# Altium schematic symbol library MoBo_SchLib.SchLib: 26 symbols
Pins are listed as number, name and electrical type; pins without a type are passive.

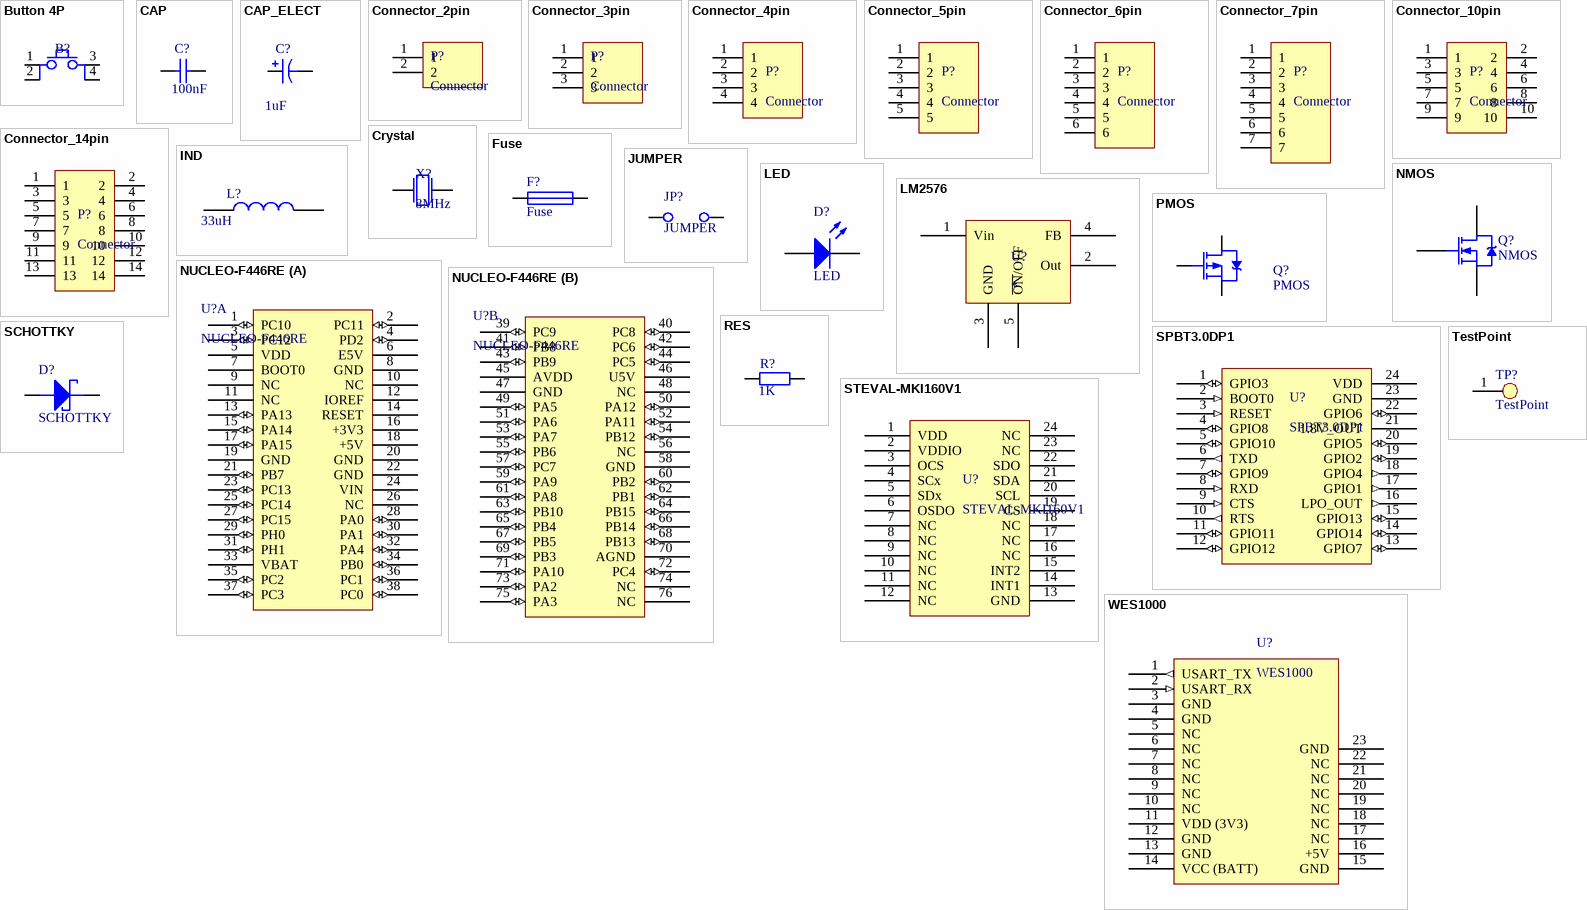
[diagram p0: symbols Button 4P to WES1000]

## Button 4P
designator B?, comment Button  (value not drawn)
Push button
footprint FP_BTN_SMD (SMD Push Button 6x6mm)
pins: 1, 2, 3, 4

## CAP
designator C?, comment 100nF
Capacitor; Value: 100nF
footprint FP_0402_CAP_050 (0.5mm magas 0402 kapacitás)
footprint FP_0603_CAP_080 (0.8mm magas 0603 kapacitás)
footprint FP_0805_CAP_085 (0805 kapacitás YAGEO 0.85mm magas)
footprint FP_1206_CAP_125 (1206 kapacitás 1.25 mm)
pins: 1, 2

## CAP_ELECT
designator C?, comment 1uF
Polarized Capacitor; Value: 1uF
footprint FP_3528 (3528 TANTÁL SMD "B"-TOK)
footprint FP_6032
footprint FP_7343
pins: N, P
1 alternate drawing of the same symbol

## Connector_2pin
designator P?, comment Connector
2pin connector
footprint FP_CONN2_TAP_254MM (álló két pólusú tápcsatlakozó 2.54mm)
footprint FP_CONN2_TAP_254MM_90 (fekvő két pólusú tápcsatlakozó 2.54mm)
footprint FP_CONN2_SORK_3.81MM (SORKAPOCS 2 P RM3.81)
footprint FP_CONN2_2MM_90 (fekvő 2 pólusú csatlakozó 2mm)
footprint FP_CONN2_2MM_180 (álló 2 pólusú csatlakozó 2mm)
footprint FP_CONN2_TUSKE_254MM (2×1 tüskesor)
pins: 1, 2

## Connector_3pin
designator P?, comment Connector
3pin connector
footprint FP_CONN3_TAP_254MM_90 (fekvő három pólusú tápcsatlakozó 2.54mm)
footprint FP_CONN3_TAP_254MM (álló három pólusú tápcsatlakozó 2.54mm)
footprint FP_CONN3_2MM_90 (fekvő 3 pólusú csatlakozó 2mm)
footprint FP_CONN3_TUSKE_254MM (3×1 tüskesor)
pins: 1, 2, 3

## Connector_4pin
designator P?, comment Connector
4pin Connector
footprint FP_CONN4_TAP_254MM_90 (fekvő két pólusú tápcsatlakozó 2.54mm)
footprint FP_CONN4_TAP_254MM (álló két pólusú tápcsatlakozó 2.54mm)
footprint FP_CONN4_2MM_90 (fekvő 6 pólusú csatlakozó 2mm)
footprint FP_CONN4_2MM_180 (álló 4 pólusú csatlakozó 2mm)
pins: 1, 2, 3, 4

## Connector_5pin
designator P?, comment Connector
5pin Connector
footprint FP_CONN5_TAP_254MM_90 (fekvő öt pólusú tápcsatlakozó 2.54mm)
footprint FP_CONN5_TAP_254MM (álló öt pólusú tápcsatlakozó 2.54mm)
footprint FP_CONN5_2MM_90 (fekvő 5 pólusú csatlakozó 2mm)
pins: 1, 2, 3, 4, 5

## Connector_6pin
designator P?, comment Connector
6pin connector
footprint FP_CONN6_TAP_254MM_90 (fekvő hat pólusú tápcsatlakozó 2.54mm)
footprint FP_CONN6_TAP_254MM (álló hat pólusú tápcsatlakozó 2.54mm)
footprint FP_CONN6_2MM_90 (fekvő 6 pólusú csatlakozó 2mm)
footprint FP_CONN6_2MM_180 (álló 6 pólusú csatlakozó 2mm)
pins: 1, 2, 3, 4, 5, 6

## Connector_7pin
designator P?, comment Connector
7pin Connector
footprint FP_CONN5_TAP_254MM_90 (fekvő öt pólusú tápcsatlakozó 2.54mm)
footprint FP_CONN5_TAP_254MM (álló öt pólusú tápcsatlakozó 2.54mm)
footprint FP_CONN5_2MM_90 (fekvő 5 pólusú csatlakozó 2mm)
pins: 1, 2, 3, 4, 5, 6, 7

## Connector_10pin
designator P?, comment Connector
10pin Connector
footprint FP_CONN10
pins: 1, 2, 3, 4, 5, 6, 7, 8, 9, 10

## Connector_14pin
designator P?, comment Connector
14pin Connector
footprint FP_CONN14
pins: 1, 2, 3, 4, 5, 6, 7, 8, 9, 10, 11, 12, 13, 14

## Crystal
designator X?, comment 8MHz
Quarz Crystal; Value: 8MHz
footprint FP_CRYSTAL_HC49_SMD (HC49/SMD)
footprint FP_CRYSTAL_HC49 (HC49)
pins: 1, 2

## Fuse
designator F?
footprint FP_MULTIFUSE (POLYFUSE SMD 1812)
pins: 1, 2

## IND
designator L?, comment 33uH
Inductor; Value: 33uH
footprint FP_IND_MURATA3131 (Murata Chip Inductor LQH88P Series (3131 Size))
pins: 1, 2

## JUMPER
designator JP?
Jumper Wire
footprint FP_CONN2_TUSKE_2MM_1.5+3.2 (2×1-es tüskesor, 2mm-es raszter, 1.5mm műanyag + 3.2mm tüske SAMTEC-TMM-1XX-01-...)
pins: 1 C1, 2 C2

## LED
designator D?
Typical RED GaAs LED
footprint FP_LED_TH_GREEN (5mm átmérőjű furatszerelt zöld LED); pin to pad 1>A 2>K
footprint FP_LED_TH_RED (5mm átmérőjű furatszerelt piros LED); pin to pad 1>A 2>K
footprint FP_0805_LED_RED (0805 méretű piros LED); pin to pad 1>A 2>K
footprint FP_0805_LED_GREEN (0805 méretű zöld LED); pin to pad 1>A 2>K
pins: 1 A, 2 K

## LM2576
designator U?
3-A Step-Down Voltage Regulator
pins: 1 Vin, 2 Out, 3 GND, 4 FB, 5 ~{ON}/OFF

## NMOS
designator Q?
NXP - BSP030,115 - MOSFET, N CH, 30V, 10A, SOT223
footprint FP_SOT223 (SOT223 package, 3 leads)
footprint FP_SOT23-3 (SOT23-3 tok); pin to pad 2>3 3>2
pins: 1 G, 2 D, 3 S

## NUCLEO-F446RE
designator U?
Reference: NUCLEO; Name: Nucleo F446RE; Supplier: Tanszék
footprint FP_NUCLEO-64
part A pins: 1 PC10 (io), 2 PC11 (io), 3 PC12 (io), 4 PD2 (io), 5 VDD (power), 6 E5V (power), 7 BOOT0, 8 GND, 9 NC, 10 NC, 11 NC, 12 IOREF, 13 PA13 (io), 14 RESET, 15 PA14 (io), 16 +3V3 (power), 17 PA15 (io), 18 +5V (power), 19 GND, 20 GND, 21 PB7 (io), 22 GND, 23 PC13 (io), 24 VIN (power), 25 PC14 (io), 26 NC, 27 PC15 (io), 28 PA0 (io), 29 PH0 (io), 30 PA1 (io), 31 PH1 (io), 32 PA4 (io), 33 VBAT (power), 34 PB0 (io), 35 PC2 (io), 36 PC1 (io), 37 PC3 (io), 38 PC0 (io)
part B pins: 39 PC9 (io), 40 PC8 (io), 41 PB8 (io), 42 PC6 (io), 43 PB9 (io), 44 PC5 (io), 45 AVDD (power), 46 U5V (power), 47 GND, 48 NC, 49 PA5 (io), 50 PA12 (io), 51 PA6 (io), 52 PA11 (io), 53 PA7 (io), 54 PB12 (io), 55 PB6 (io), 56 NC, 57 PC7 (io), 58 GND, 59 PA9 (io), 60 PB2 (io), 61 PA8 (io), 62 PB1 (io), 63 PB10 (io), 64 PB15 (io), 65 PB4 (io), 66 PB14 (io), 67 PB5 (io), 68 PB13 (io), 69 PB3 (io), 70 AGND, 71 PA10 (io), 72 PC4 (io), 73 PA2 (io), 74 NC, 75 PA3 (io), 76 NC

## PMOS
designator Q?
MOSFET, P CH
footprint FP_DPAK-TO252 (D-PAK Package)
footprint FP_SOT23-3 (SOT23-3 tok); pin to pad 2>3 3>2
pins: 1 G, 2 D, 3 S

## RES
designator R?, comment 1K
Resistor; Value: 1K
footprint FP_0603_RES (0603 ellenállás)
footprint FP_0805_RES (0805 ellenállás)
footprint FP_1206_RES (1206 ellenállás)
pins: 1, 2

## SCHOTTKY
designator D?
Schottky diode
footprint FP_SMC (Diode)
footprint FP_SOT23-3 (SOT23-3 tok); pin to pad 1>3 2>1
pins: 1 CATHODE, 2 ANODE

## SPBT3.0DP1
designator U?
Bluetooth 3.0 modul
pins: 1 GPIO3 (io), 2 BOOT0 (in), 3 RESET (in), 4 GPIO8 (io), 5 GPIO10 (io), 6 TXD (out), 7 GPIO9 (io), 8 RXD (in), 9 CTS (in), 10 RTS (out), 11 GPIO11 (io), 12 GPIO12 (io), 13 GPIO7 (io), 14 GPIO14 (io), 15 GPIO13 (io), 16 LPO_OUT (out), 17 GPIO1 (out) "GPIO indicating BT Connection Status", 18 GPIO4 (out) "GPIO indicating Module Power Status", 19 GPIO2 (io), 20 GPIO5 (io), 21 1.8V_OUT, 22 GPIO6 (io), 23 GND (power), 24 VDD (power)

## STEVAL-MKI160V1
designator U?
Inierciális modul
pins: 1 VDD (power), 2 VDDIO, 3 OCS, 4 SCx, 5 SDx, 6 OSDO, 7 NC, 8 NC, 9 NC, 10 NC, 11 NC, 12 NC, 13 GND (power), 14 INT1, 15 INT2, 16 NC, 17 NC, 18 NC, 19 CS, 20 SCL, 21 SDA, 22 SDO, 23 NC, 24 NC

## TestPoint
designator TP?
Test Point
footprint FP_TestPoint (TestPoint)
pins: 1 "TestPoint"

## WES1000
designator U?
SiLabs vezeték nélküli modul
footprint FP_WES1000
pins: 1 USART_TX (out), 2 USART_RX (in), 3 GND, 4 GND, 5 NC, 6 NC, 7 NC, 8 NC, 9 NC, 10 NC, 11 VDD (3V3), 12 GND, 13 GND, 14 VCC (BATT), 15 GND, 16 +5V, 17 NC, 18 NC, 19 NC, 20 NC, 21 NC, 22 NC, 23 GND